# Altium footprint library IPC-7355 QFP_Shrink_Sq_50P_Side_L.PcbLib: 26 footprints (part 1 of 3)
Each footprint in its own frame and in the unit in brackets; x right, y up, seen from the top. Pads: shape width x height; smd on the part's side, far side on the other; paste and mask are expansions set on the pad; w line width, h text height; cw(c..) or ccw(c..) is an arc to the next point about the centre after c.
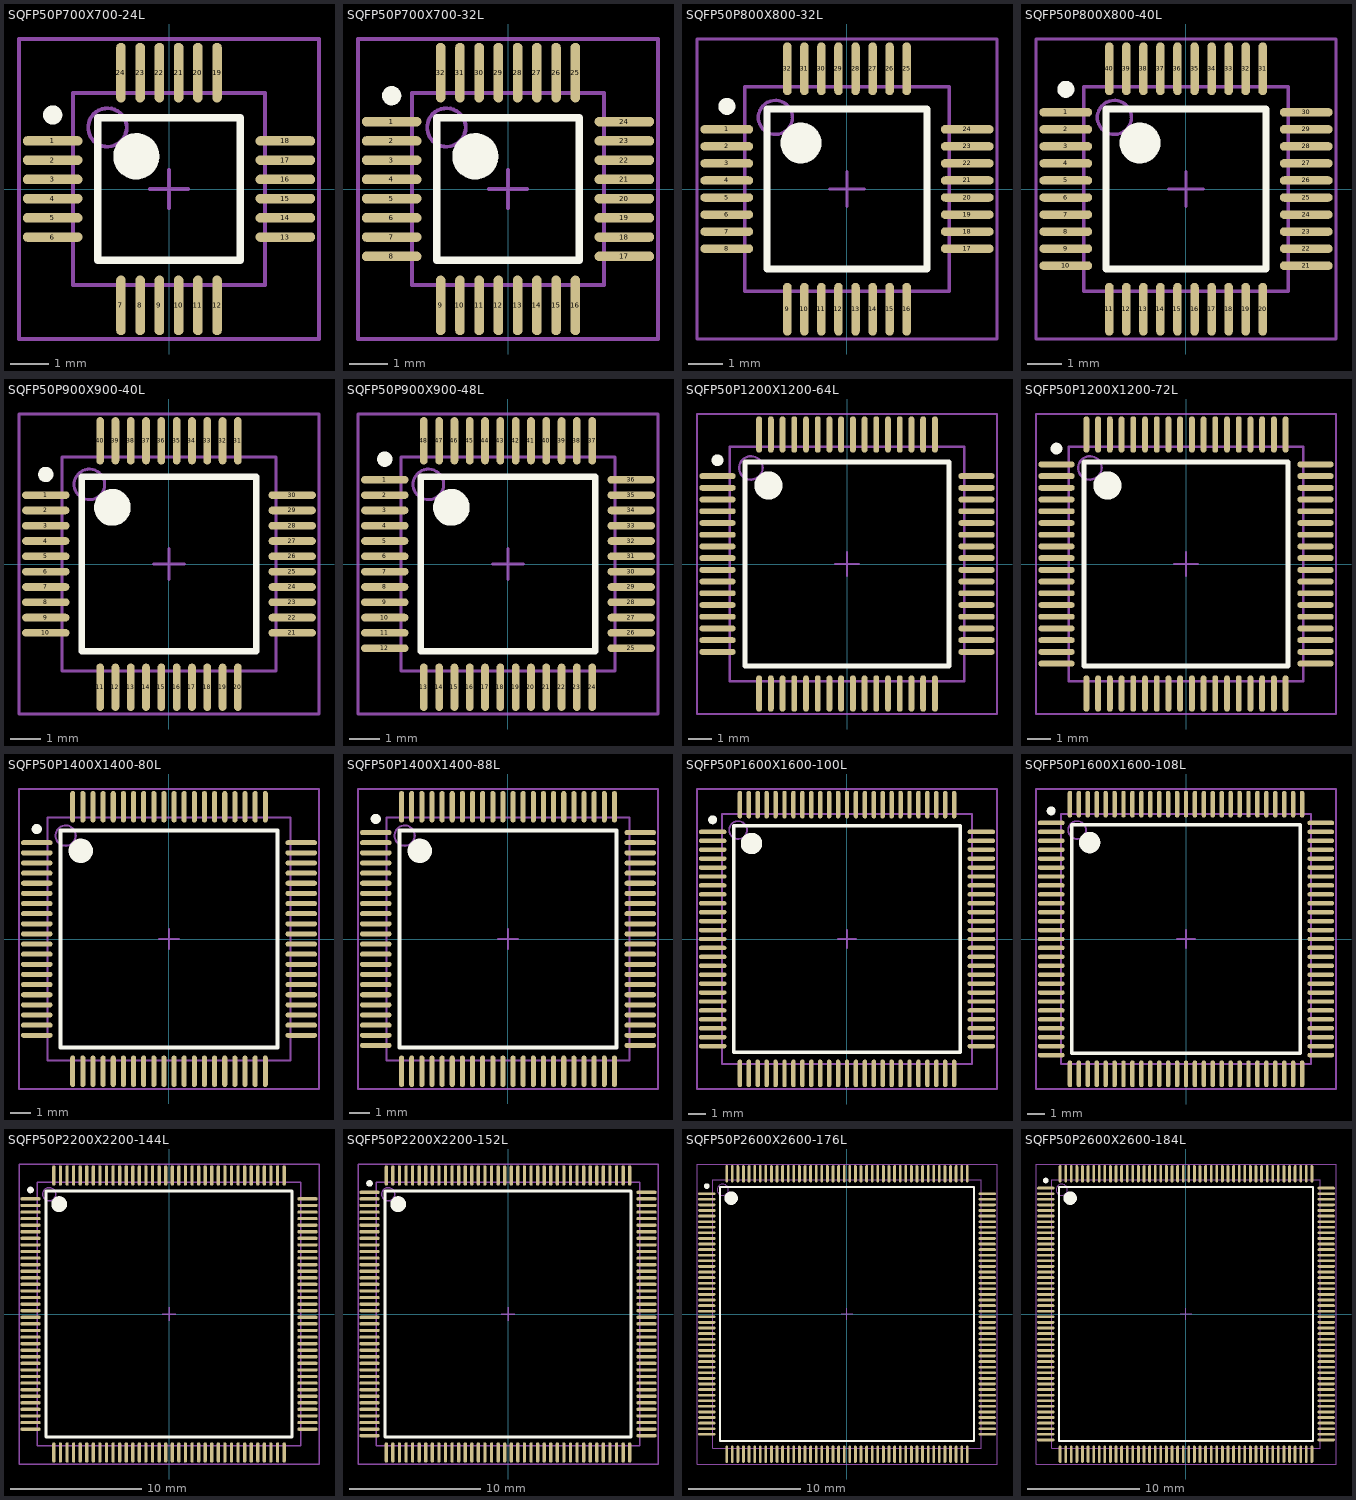
[diagram p0: the footprints below, top view; thin cyan lines are the x and y axes]

## SQFP50P700X700-24L [mm] "Shrink QFP, 24-Leads, Body 5x5mm, Pitch 0.5mm, IPC High Density"
height 1.7
pads (24):
  oval 1.55x0.25 smd: 1(-3.025,1.25) 2(-3.025,0.75) 3(-3.025,0.25) 4(-3.025,-0.25) 5(-3.025,-0.75) 6(-3.025,-1.25) 13(3.025,-1.25) 14(3.025,-0.75) 15(3.025,-0.25) 16(3.025,0.25) 17(3.025,0.75) 18(3.025,1.25)
  oval 0.25x1.55 smd: 7(-1.25,-3.025) 8(-0.75,-3.025) 9(-0.25,-3.025) 10(0.25,-3.025) 11(0.75,-3.025) 12(1.25,-3.025) 19(1.25,3.025) 20(0.75,3.025) 21(0.25,3.025) 22(-0.25,3.025) 23(-0.75,3.025) 24(-1.25,3.025)
Top Overlay:
  circle w0.25: c-3.025,1.925 r0.125
  circle w0.6: c-0.85,0.85 r0.3
  lines w0.2: -1.85,-1.85 -1.85,1.85 1.85,1.85 1.85,-1.85 -1.85,-1.85
Mechanical 13:
  circle w0.1: c-1.6,1.6 r0.5
  lines w0.1: -2.5,-2.5 -2.5,2.5 2.5,2.5 2.5,-2.5 -2.5,-2.5
Mechanical 15:
  lines w0.1: -0.5,0 0.5,0 ; 0,-0.5 0,0.5 ; -3.9,-3.9 -3.9,3.9 3.9,3.9 3.9,-3.9 -3.9,-3.9
3D body: height 1.7, standoff 0, extent -2.5,-2.5 2.5,2.5

## SQFP50P700X700-32L [mm] "Shrink QFP, 32-Leads, Body 5x5mm, Pitch 0.5mm, IPC High Density"
height 1.7
pads (32):
  oval 1.55x0.25 smd: 1(-3.025,1.75) 2(-3.025,1.25) 3(-3.025,0.75) 4(-3.025,0.25) 5(-3.025,-0.25) 6(-3.025,-0.75) 7(-3.025,-1.25) 8(-3.025,-1.75) 17(3.025,-1.75) 18(3.025,-1.25) 19(3.025,-0.75) 20(3.025,-0.25) 21(3.025,0.25) 22(3.025,0.75) 23(3.025,1.25) 24(3.025,1.75)
  oval 0.25x1.55 smd: 9(-1.75,-3.025) 10(-1.25,-3.025) 11(-0.75,-3.025) 12(-0.25,-3.025) 13(0.25,-3.025) 14(0.75,-3.025) 15(1.25,-3.025) 16(1.75,-3.025) 25(1.75,3.025) 26(1.25,3.025) 27(0.75,3.025) 28(0.25,3.025) 29(-0.25,3.025) 30(-0.75,3.025) 31(-1.25,3.025) 32(-1.75,3.025)
Top Overlay:
  circle w0.6: c-0.85,0.85 r0.3
  circle w0.25: c-3.025,2.425 r0.125
  lines w0.2: -1.85,-1.85 1.85,-1.85 1.85,1.85 -1.85,1.85 -1.85,-1.85
Mechanical 13:
  circle w0.1: c-1.6,1.6 r0.5
  lines w0.1: -2.5,-2.5 2.5,-2.5 2.5,2.5 -2.5,2.5 -2.5,-2.5
Mechanical 15:
  lines w0.1: -0.5,0 0.5,0 ; 0,-0.5 0,0.5 ; -3.9,-3.9 3.9,-3.9 3.9,3.9 -3.9,3.9 -3.9,-3.9
3D body: height 1.7, standoff 0, extent -2.5,-2.5 2.5,2.5

## SQFP50P800X800-32L [mm] "Shrink QFP, 32-Leads, Body 6x6mm, Pitch 0.5mm, IPC High Density"
height 1.7
pads (32):
  oval 1.55x0.25 smd: 1(-3.525,1.75) 2(-3.525,1.25) 3(-3.525,0.75) 4(-3.525,0.25) 5(-3.525,-0.25) 6(-3.525,-0.75) 7(-3.525,-1.25) 8(-3.525,-1.75) 17(3.525,-1.75) 18(3.525,-1.25) 19(3.525,-0.75) 20(3.525,-0.25) 21(3.525,0.25) 22(3.525,0.75) 23(3.525,1.25) 24(3.525,1.75)
  oval 0.25x1.55 smd: 9(-1.75,-3.525) 10(-1.25,-3.525) 11(-0.75,-3.525) 12(-0.25,-3.525) 13(0.25,-3.525) 14(0.75,-3.525) 15(1.25,-3.525) 16(1.75,-3.525) 25(1.75,3.525) 26(1.25,3.525) 27(0.75,3.525) 28(0.25,3.525) 29(-0.25,3.525) 30(-0.75,3.525) 31(-1.25,3.525) 32(-1.75,3.525)
Top Overlay:
  circle w0.6: c-1.35,1.35 r0.3
  circle w0.25: c-3.525,2.425 r0.125
  lines w0.2: -2.35,-2.35 2.35,-2.35 2.35,2.35 -2.35,2.35 -2.35,-2.35
Mechanical 13:
  circle w0.1: c-2.1,2.1 r0.5
  lines w0.1: -3,-3 3,-3 3,3 -3,3 -3,-3
Mechanical 15:
  lines w0.1: -0.5,0 0.5,0 ; 0,-0.5 0,0.5 ; -4.4,-4.4 4.4,-4.4 4.4,4.4 -4.4,4.4 -4.4,-4.4
3D body: height 1.7, standoff 0, extent -3,-3 3,3

## SQFP50P800X800-40L [mm] "Shrink QFP, 40-Leads, Body 6x6mm, Pitch 0.5mm, IPC High Density"
height 1.7
pads (40):
  oval 1.55x0.25 smd: 1(-3.525,2.25) 2(-3.525,1.75) 3(-3.525,1.25) 4(-3.525,0.75) 5(-3.525,0.25) 6(-3.525,-0.25) 7(-3.525,-0.75) 8(-3.525,-1.25) 9(-3.525,-1.75) 10(-3.525,-2.25) 21(3.525,-2.25) 22(3.525,-1.75) 23(3.525,-1.25) 24(3.525,-0.75) 25(3.525,-0.25) 26(3.525,0.25) 27(3.525,0.75) 28(3.525,1.25) 29(3.525,1.75) 30(3.525,2.25)
  oval 0.25x1.55 smd: 11(-2.25,-3.525) 12(-1.75,-3.525) 13(-1.25,-3.525) 14(-0.75,-3.525) 15(-0.25,-3.525) 16(0.25,-3.525) 17(0.75,-3.525) 18(1.25,-3.525) 19(1.75,-3.525) 20(2.25,-3.525) 31(2.25,3.525) 32(1.75,3.525) 33(1.25,3.525) 34(0.75,3.525) 35(0.25,3.525) 36(-0.25,3.525) 37(-0.75,3.525) 38(-1.25,3.525) 39(-1.75,3.525) 40(-2.25,3.525)
Top Overlay:
  circle w0.6: c-1.35,1.35 r0.3
  circle w0.25: c-3.525,2.925 r0.125
  lines w0.2: -2.35,-2.35 2.35,-2.35 2.35,2.35 -2.35,2.35 -2.35,-2.35
Mechanical 13:
  circle w0.1: c-2.1,2.1 r0.5
  lines w0.1: -3,-3 3,-3 3,3 -3,3 -3,-3
Mechanical 15:
  lines w0.1: -0.5,0 0.5,0 ; 0,-0.5 0,0.5 ; -4.4,-4.4 4.4,-4.4 4.4,4.4 -4.4,4.4 -4.4,-4.4
3D body: height 1.7, standoff 0, extent -3,-3 3,3

## SQFP50P900X900-40L [mm] "Shrink QFP, 40-Leads, Body 7x7mm, Pitch 0.5mm, IPC High Density"
height 1.7
pads (40):
  oval 1.55x0.25 smd: 1(-4.025,2.25) 2(-4.025,1.75) 3(-4.025,1.25) 4(-4.025,0.75) 5(-4.025,0.25) 6(-4.025,-0.25) 7(-4.025,-0.75) 8(-4.025,-1.25) 9(-4.025,-1.75) 10(-4.025,-2.25) 21(4.025,-2.25) 22(4.025,-1.75) 23(4.025,-1.25) 24(4.025,-0.75) 25(4.025,-0.25) 26(4.025,0.25) 27(4.025,0.75) 28(4.025,1.25) 29(4.025,1.75) 30(4.025,2.25)
  oval 0.25x1.55 smd: 11(-2.25,-4.025) 12(-1.75,-4.025) 13(-1.25,-4.025) 14(-0.75,-4.025) 15(-0.25,-4.025) 16(0.25,-4.025) 17(0.75,-4.025) 18(1.25,-4.025) 19(1.75,-4.025) 20(2.25,-4.025) 31(2.25,4.025) 32(1.75,4.025) 33(1.25,4.025) 34(0.75,4.025) 35(0.25,4.025) 36(-0.25,4.025) 37(-0.75,4.025) 38(-1.25,4.025) 39(-1.75,4.025) 40(-2.25,4.025)
Top Overlay:
  circle w0.6: c-1.85,1.85 r0.3
  circle w0.25: c-4.025,2.925 r0.125
  lines w0.2: -2.85,-2.85 2.85,-2.85 2.85,2.85 -2.85,2.85 -2.85,-2.85
Mechanical 13:
  circle w0.1: c-2.6,2.6 r0.5
  lines w0.1: -3.5,-3.5 3.5,-3.5 3.5,3.5 -3.5,3.5 -3.5,-3.5
Mechanical 15:
  lines w0.1: -0.5,0 0.5,0 ; 0,-0.5 0,0.5 ; -4.9,-4.9 4.9,-4.9 4.9,4.9 -4.9,4.9 -4.9,-4.9
3D body: height 1.7, standoff 0, extent -3.5,-3.5 3.5,3.5

## SQFP50P900X900-48L [mm] "Shrink QFP, 48-Leads, Body 7x7mm, Pitch 0.5mm, IPC High Density"
height 1.7
pads (48):
  oval 1.55x0.25 smd: 1(-4.025,2.75) 2(-4.025,2.25) 3(-4.025,1.75) 4(-4.025,1.25) 5(-4.025,0.75) 6(-4.025,0.25) 7(-4.025,-0.25) 8(-4.025,-0.75) 9(-4.025,-1.25) 10(-4.025,-1.75) 11(-4.025,-2.25) 12(-4.025,-2.75) 25(4.025,-2.75) 26(4.025,-2.25) 27(4.025,-1.75) 28(4.025,-1.25) 29(4.025,-0.75) 30(4.025,-0.25) 31(4.025,0.25) 32(4.025,0.75) 33(4.025,1.25) 34(4.025,1.75) 35(4.025,2.25) 36(4.025,2.75)
  oval 0.25x1.55 smd: 13(-2.75,-4.025) 14(-2.25,-4.025) 15(-1.75,-4.025) 16(-1.25,-4.025) 17(-0.75,-4.025) 18(-0.25,-4.025) 19(0.25,-4.025) 20(0.75,-4.025) 21(1.25,-4.025) 22(1.75,-4.025) 23(2.25,-4.025) 24(2.75,-4.025) 37(2.75,4.025) 38(2.25,4.025) 39(1.75,4.025) 40(1.25,4.025) 41(0.75,4.025) 42(0.25,4.025) 43(-0.25,4.025) 44(-0.75,4.025) 45(-1.25,4.025) 46(-1.75,4.025) 47(-2.25,4.025) 48(-2.75,4.025)
Top Overlay:
  circle w0.6: c-1.85,1.85 r0.3
  circle w0.25: c-4.025,3.425 r0.125
  lines w0.2: -2.85,-2.85 2.85,-2.85 2.85,2.85 -2.85,2.85 -2.85,-2.85
Mechanical 13:
  circle w0.1: c-2.6,2.6 r0.5
  lines w0.1: -3.5,-3.5 3.5,-3.5 3.5,3.5 -3.5,3.5 -3.5,-3.5
Mechanical 15:
  lines w0.1: -0.5,0 0.5,0 ; 0,-0.5 0,0.5 ; -4.9,-4.9 4.9,-4.9 4.9,4.9 -4.9,4.9 -4.9,-4.9
3D body: height 1.7, standoff 0, extent -3.5,-3.5 3.5,3.5

## SQFP50P1200X1200-64L [mm] "Shrink QFP, 64-Leads, Body 10x10mm, Pitch 0.5mm, IPC High Density"
height 2.2
pads (64):
  oval 1.55x0.25 smd: 1(-5.525,3.75) 2(-5.525,3.25) 3(-5.525,2.75) 4(-5.525,2.25) 5(-5.525,1.75) 6(-5.525,1.25) 7(-5.525,0.75) 8(-5.525,0.25) 9(-5.525,-0.25) 10(-5.525,-0.75) 11(-5.525,-1.25) 12(-5.525,-1.75) 13(-5.525,-2.25) 14(-5.525,-2.75) 15(-5.525,-3.25) 16(-5.525,-3.75) 33(5.525,-3.75) 34(5.525,-3.25) 35(5.525,-2.75) 36(5.525,-2.25) 37(5.525,-1.75) 38(5.525,-1.25) 39(5.525,-0.75) 40(5.525,-0.25) 41(5.525,0.25) 42(5.525,0.75) 43(5.525,1.25) 44(5.525,1.75) 45(5.525,2.25) 46(5.525,2.75) 47(5.525,3.25) 48(5.525,3.75)
  oval 0.25x1.55 smd: 17(-3.75,-5.525) 18(-3.25,-5.525) 19(-2.75,-5.525) 20(-2.25,-5.525) 21(-1.75,-5.525) 22(-1.25,-5.525) 23(-0.75,-5.525) 24(-0.25,-5.525) 25(0.25,-5.525) 26(0.75,-5.525) 27(1.25,-5.525) 28(1.75,-5.525) 29(2.25,-5.525) 30(2.75,-5.525) 31(3.25,-5.525) 32(3.75,-5.525) 49(3.75,5.525) 50(3.25,5.525) 51(2.75,5.525) 52(2.25,5.525) 53(1.75,5.525) 54(1.25,5.525) 55(0.75,5.525) 56(0.25,5.525) 57(-0.25,5.525) 58(-0.75,5.525) 59(-1.25,5.525) 60(-1.75,5.525) 61(-2.25,5.525) 62(-2.75,5.525) 63(-3.25,5.525) 64(-3.75,5.525)
Top Overlay:
  circle w0.6: c-3.35,3.35 r0.3
  circle w0.25: c-5.525,4.425 r0.125
  lines w0.2: -4.35,-4.35 4.35,-4.35 4.35,4.35 -4.35,4.35 -4.35,-4.35
Mechanical 13:
  circle w0.1: c-4.1,4.1 r0.5
  lines w0.1: -5,-5 5,-5 5,5 -5,5 -5,-5
Mechanical 15:
  lines w0.1: -0.5,0 0.5,0 ; 0,-0.5 0,0.5 ; -6.4,-6.4 6.4,-6.4 6.4,6.4 -6.4,6.4 -6.4,-6.4
3D body: height 2.2, standoff 0, extent -5,-5 5,5

## SQFP50P1200X1200-72L [mm] "Shrink QFP, 72-Leads, Body 10x10mm, Pitch 0.5mm, IPC High Density"
height 2.2
pads (72):
  oval 1.55x0.25 smd: 1(-5.525,4.25) 2(-5.525,3.75) 3(-5.525,3.25) 4(-5.525,2.75) 5(-5.525,2.25) 6(-5.525,1.75) 7(-5.525,1.25) 8(-5.525,0.75) 9(-5.525,0.25) 10(-5.525,-0.25) 11(-5.525,-0.75) 12(-5.525,-1.25) 13(-5.525,-1.75) 14(-5.525,-2.25) 15(-5.525,-2.75) 16(-5.525,-3.25) 17(-5.525,-3.75) 18(-5.525,-4.25) 37(5.525,-4.25) 38(5.525,-3.75) 39(5.525,-3.25) 40(5.525,-2.75) 41(5.525,-2.25) 42(5.525,-1.75) 43(5.525,-1.25) 44(5.525,-0.75) 45(5.525,-0.25) 46(5.525,0.25) 47(5.525,0.75) 48(5.525,1.25) 49(5.525,1.75) 50(5.525,2.25) 51(5.525,2.75) 52(5.525,3.25) 53(5.525,3.75) 54(5.525,4.25)
  oval 0.25x1.55 smd: 19(-4.25,-5.525) 20(-3.75,-5.525) 21(-3.25,-5.525) 22(-2.75,-5.525) 23(-2.25,-5.525) 24(-1.75,-5.525) 25(-1.25,-5.525) 26(-0.75,-5.525) 27(-0.25,-5.525) 28(0.25,-5.525) 29(0.75,-5.525) 30(1.25,-5.525) 31(1.75,-5.525) 32(2.25,-5.525) 33(2.75,-5.525) 34(3.25,-5.525) 35(3.75,-5.525) 36(4.25,-5.525) 55(4.25,5.525) 56(3.75,5.525) 57(3.25,5.525) 58(2.75,5.525) 59(2.25,5.525) 60(1.75,5.525) 61(1.25,5.525) 62(0.75,5.525) 63(0.25,5.525) 64(-0.25,5.525) 65(-0.75,5.525) 66(-1.25,5.525) 67(-1.75,5.525) 68(-2.25,5.525) 69(-2.75,5.525) 70(-3.25,5.525) 71(-3.75,5.525) 72(-4.25,5.525)
Top Overlay:
  circle w0.6: c-3.35,3.35 r0.3
  circle w0.25: c-5.525,4.925 r0.125
  lines w0.2: -4.35,-4.35 4.35,-4.35 4.35,4.35 -4.35,4.35 -4.35,-4.35
Mechanical 13:
  circle w0.1: c-4.1,4.1 r0.5
  lines w0.1: -5,-5 5,-5 5,5 -5,5 -5,-5
Mechanical 15:
  lines w0.1: -0.5,0 0.5,0 ; 0,-0.5 0,0.5 ; -6.4,-6.4 6.4,-6.4 6.4,6.4 -6.4,6.4 -6.4,-6.4
3D body: height 2.2, standoff 0, extent -5,-5 5,5

## SQFP50P1400X1400-80L [mm] "Shrink QFP, 80-Leads, Body 12x12mm, Pitch 0.5mm, IPC High Density"
height 2.2
pads (80):
  oval 1.55x0.25 smd: 1(-6.525,4.75) 2(-6.525,4.25) 3(-6.525,3.75) 4(-6.525,3.25) 5(-6.525,2.75) 6(-6.525,2.25) 7(-6.525,1.75) 8(-6.525,1.25) 9(-6.525,0.75) 10(-6.525,0.25) 11(-6.525,-0.25) 12(-6.525,-0.75) 13(-6.525,-1.25) 14(-6.525,-1.75) 15(-6.525,-2.25) 16(-6.525,-2.75) 17(-6.525,-3.25) 18(-6.525,-3.75) 19(-6.525,-4.25) 20(-6.525,-4.75) 41(6.525,-4.75) 42(6.525,-4.25) 43(6.525,-3.75) 44(6.525,-3.25) 45(6.525,-2.75) 46(6.525,-2.25) 47(6.525,-1.75) 48(6.525,-1.25) 49(6.525,-0.75) 50(6.525,-0.25) 51(6.525,0.25) 52(6.525,0.75) 53(6.525,1.25) 54(6.525,1.75) 55(6.525,2.25) 56(6.525,2.75) 57(6.525,3.25) 58(6.525,3.75) 59(6.525,4.25) 60(6.525,4.75)
  oval 0.25x1.55 smd: 21(-4.75,-6.525) 22(-4.25,-6.525) 23(-3.75,-6.525) 24(-3.25,-6.525) 25(-2.75,-6.525) 26(-2.25,-6.525) 27(-1.75,-6.525) 28(-1.25,-6.525) 29(-0.75,-6.525) 30(-0.25,-6.525) 31(0.25,-6.525) 32(0.75,-6.525) 33(1.25,-6.525) 34(1.75,-6.525) 35(2.25,-6.525) 36(2.75,-6.525) 37(3.25,-6.525) 38(3.75,-6.525) 39(4.25,-6.525) 40(4.75,-6.525) 61(4.75,6.525) 62(4.25,6.525) 63(3.75,6.525) 64(3.25,6.525) 65(2.75,6.525) 66(2.25,6.525) 67(1.75,6.525) 68(1.25,6.525) 69(0.75,6.525) 70(0.25,6.525) 71(-0.25,6.525) 72(-0.75,6.525) 73(-1.25,6.525) 74(-1.75,6.525) 75(-2.25,6.525) 76(-2.75,6.525) 77(-3.25,6.525) 78(-3.75,6.525) 79(-4.25,6.525) 80(-4.75,6.525)
Top Overlay:
  circle w0.6: c-4.35,4.35 r0.3
  circle w0.25: c-6.525,5.425 r0.125
  lines w0.2: -5.35,-5.35 5.35,-5.35 5.35,5.35 -5.35,5.35 -5.35,-5.35
Mechanical 13:
  circle w0.1: c-5.1,5.1 r0.5
  lines w0.1: -6,-6 6,-6 6,6 -6,6 -6,-6
Mechanical 15:
  lines w0.1: -0.5,0 0.5,0 ; 0,-0.5 0,0.5 ; -7.4,-7.4 7.4,-7.4 7.4,7.4 -7.4,7.4 -7.4,-7.4
3D body: height 2.2, standoff 0, extent -6,-6 6,6

## SQFP50P1400X1400-88L [mm] "Shrink QFP, 88-Leads, Body 12x12mm, Pitch 0.5mm, IPC High Density"
height 2.2
pads (88):
  oval 1.55x0.25 smd: 1(-6.525,5.25) 2(-6.525,4.75) 3(-6.525,4.25) 4(-6.525,3.75) 5(-6.525,3.25) 6(-6.525,2.75) 7(-6.525,2.25) 8(-6.525,1.75) 9(-6.525,1.25) 10(-6.525,0.75) 11(-6.525,0.25) 12(-6.525,-0.25) 13(-6.525,-0.75) 14(-6.525,-1.25) 15(-6.525,-1.75) 16(-6.525,-2.25) 17(-6.525,-2.75) 18(-6.525,-3.25) 19(-6.525,-3.75) 20(-6.525,-4.25) 21(-6.525,-4.75) 22(-6.525,-5.25) 45(6.525,-5.25) 46(6.525,-4.75) 47(6.525,-4.25) 48(6.525,-3.75) 49(6.525,-3.25) 50(6.525,-2.75) 51(6.525,-2.25) 52(6.525,-1.75) 53(6.525,-1.25) 54(6.525,-0.75) 55(6.525,-0.25) 56(6.525,0.25) 57(6.525,0.75) 58(6.525,1.25) 59(6.525,1.75) 60(6.525,2.25) 61(6.525,2.75) 62(6.525,3.25) 63(6.525,3.75) 64(6.525,4.25) 65(6.525,4.75) 66(6.525,5.25)
  oval 0.25x1.55 smd: 23(-5.25,-6.525) 24(-4.75,-6.525) 25(-4.25,-6.525) 26(-3.75,-6.525) 27(-3.25,-6.525) 28(-2.75,-6.525) 29(-2.25,-6.525) 30(-1.75,-6.525) 31(-1.25,-6.525) 32(-0.75,-6.525) 33(-0.25,-6.525) 34(0.25,-6.525) 35(0.75,-6.525) 36(1.25,-6.525) 37(1.75,-6.525) 38(2.25,-6.525) 39(2.75,-6.525) 40(3.25,-6.525) 41(3.75,-6.525) 42(4.25,-6.525) 43(4.75,-6.525) 44(5.25,-6.525) 67(5.25,6.525) 68(4.75,6.525) 69(4.25,6.525) 70(3.75,6.525) 71(3.25,6.525) 72(2.75,6.525) 73(2.25,6.525) 74(1.75,6.525) 75(1.25,6.525) 76(0.75,6.525) 77(0.25,6.525) 78(-0.25,6.525) 79(-0.75,6.525) 80(-1.25,6.525) 81(-1.75,6.525) 82(-2.25,6.525) 83(-2.75,6.525) 84(-3.25,6.525) 85(-3.75,6.525) 86(-4.25,6.525) 87(-4.75,6.525) 88(-5.25,6.525)
Top Overlay:
  circle w0.6: c-4.35,4.35 r0.3
  circle w0.25: c-6.525,5.925 r0.125
  lines w0.2: -5.35,-5.35 5.35,-5.35 5.35,5.35 -5.35,5.35 -5.35,-5.35
Mechanical 13:
  circle w0.1: c-5.1,5.1 r0.5
  lines w0.1: -6,-6 6,-6 6,6 -6,6 -6,-6
Mechanical 15:
  lines w0.1: -0.5,0 0.5,0 ; 0,-0.5 0,0.5 ; -7.4,-7.4 7.4,-7.4 7.4,7.4 -7.4,7.4 -7.4,-7.4
3D body: height 2.2, standoff 0, extent -6,-6 6,6

## SQFP50P1600X1600-100L [mm] "Shrink QFP, 100-Leads, Body 14x14mm, Pitch 0.5mm, IPC High Density"
height 2.2
pads (100):
  oval 1.55x0.25 smd: 1(-7.525,6) 2(-7.525,5.5) 3(-7.525,5) 4(-7.525,4.5) 5(-7.525,4) 6(-7.525,3.5) 7(-7.525,3) 8(-7.525,2.5) 9(-7.525,2) 10(-7.525,1.5) 11(-7.525,1) 12(-7.525,0.5) 13(-7.525,0) 14(-7.525,-0.5) 15(-7.525,-1) 16(-7.525,-1.5) 17(-7.525,-2) 18(-7.525,-2.5) 19(-7.525,-3) 20(-7.525,-3.5) 21(-7.525,-4) 22(-7.525,-4.5) 23(-7.525,-5) 24(-7.525,-5.5) 25(-7.525,-6) 51(7.525,-6) 52(7.525,-5.5) 53(7.525,-5) 54(7.525,-4.5) 55(7.525,-4) 56(7.525,-3.5) 57(7.525,-3) 58(7.525,-2.5) 59(7.525,-2) 60(7.525,-1.5) 61(7.525,-1) 62(7.525,-0.5) 63(7.525,0) 64(7.525,0.5) 65(7.525,1) 66(7.525,1.5) 67(7.525,2) 68(7.525,2.5) 69(7.525,3) 70(7.525,3.5) 71(7.525,4) 72(7.525,4.5) 73(7.525,5) 74(7.525,5.5) 75(7.525,6)
  oval 0.25x1.55 smd: 26(-6,-7.525) 27(-5.5,-7.525) 28(-5,-7.525) 29(-4.5,-7.525) 30(-4,-7.525) 31(-3.5,-7.525) 32(-3,-7.525) 33(-2.5,-7.525) 34(-2,-7.525) 35(-1.5,-7.525) 36(-1,-7.525) 37(-0.5,-7.525) 38(0,-7.525) 39(0.5,-7.525) 40(1,-7.525) 41(1.5,-7.525) 42(2,-7.525) 43(2.5,-7.525) 44(3,-7.525) 45(3.5,-7.525) 46(4,-7.525) 47(4.5,-7.525) 48(5,-7.525) 49(5.5,-7.525) 50(6,-7.525) 76(6,7.525) 77(5.5,7.525) 78(5,7.525) 79(4.5,7.525) 80(4,7.525) 81(3.5,7.525) 82(3,7.525) 83(2.5,7.525) 84(2,7.525) 85(1.5,7.525) 86(1,7.525) 87(0.5,7.525) 88(0,7.525) 89(-0.5,7.525) 90(-1,7.525) 91(-1.5,7.525) 92(-2,7.525) 93(-2.5,7.525) 94(-3,7.525) 95(-3.5,7.525) 96(-4,7.525) 97(-4.5,7.525) 98(-5,7.525) 99(-5.5,7.525) 100(-6,7.525)
Top Overlay:
  circle w0.6: c-5.35,5.35 r0.3
  circle w0.25: c-7.525,6.675 r0.125
  lines w0.2: -6.35,-6.35 6.35,-6.35 6.35,6.35 -6.35,6.35 -6.35,-6.35
Mechanical 13:
  circle w0.1: c-6.1,6.1 r0.5
  lines w0.1: -7,-7 7,-7 7,7 -7,7 -7,-7
Mechanical 15:
  lines w0.1: -0.5,0 0.5,0 ; 0,-0.5 0,0.5 ; -8.4,-8.4 8.4,-8.4 8.4,8.4 -8.4,8.4 -8.4,-8.4
3D body: height 2.2, standoff 0, extent -7,-7 7,7

## SQFP50P1600X1600-108L [mm] "Shrink QFP, 108-Leads, Body 14x14mm, Pitch 0.5mm, IPC High Density"
height 2.2
pads (108):
  oval 1.5x0.25 smd: 1(-7.55,6.5) 2(-7.55,6) 3(-7.55,5.5) 4(-7.55,5) 5(-7.55,4.5) 6(-7.55,4) 7(-7.55,3.5) 8(-7.55,3) 9(-7.55,2.5) 10(-7.55,2) 11(-7.55,1.5) 12(-7.55,1) 13(-7.55,0.5) 14(-7.55,0) 15(-7.55,-0.5) 16(-7.55,-1) 17(-7.55,-1.5) 18(-7.55,-2) 19(-7.55,-2.5) 20(-7.55,-3) 21(-7.55,-3.5) 22(-7.55,-4) 23(-7.55,-4.5) 24(-7.55,-5) 25(-7.55,-5.5) 26(-7.55,-6) 27(-7.55,-6.5) 55(7.55,-6.5) 56(7.55,-6) 57(7.55,-5.5) 58(7.55,-5) 59(7.55,-4.5) 60(7.55,-4) 61(7.55,-3.5) 62(7.55,-3) 63(7.55,-2.5) 64(7.55,-2) 65(7.55,-1.5) 66(7.55,-1) 67(7.55,-0.5) 68(7.55,0) 69(7.55,0.5) 70(7.55,1) 71(7.55,1.5) 72(7.55,2) 73(7.55,2.5) 74(7.55,3) 75(7.55,3.5) 76(7.55,4) 77(7.55,4.5) 78(7.55,5) 79(7.55,5.5) 80(7.55,6) 81(7.55,6.5)
  oval 0.25x1.5 smd: 28(-6.5,-7.55) 29(-6,-7.55) 30(-5.5,-7.55) 31(-5,-7.55) 32(-4.5,-7.55) 33(-4,-7.55) 34(-3.5,-7.55) 35(-3,-7.55) 36(-2.5,-7.55) 37(-2,-7.55) 38(-1.5,-7.55) 39(-1,-7.55) 40(-0.5,-7.55) 41(0,-7.55) 42(0.5,-7.55) 43(1,-7.55) 44(1.5,-7.55) 45(2,-7.55) 46(2.5,-7.55) 47(3,-7.55) 48(3.5,-7.55) 49(4,-7.55) 50(4.5,-7.55) 51(5,-7.55) 52(5.5,-7.55) 53(6,-7.55) 54(6.5,-7.55) 82(6.5,7.55) 83(6,7.55) 84(5.5,7.55) 85(5,7.55) 86(4.5,7.55) 87(4,7.55) 88(3.5,7.55) 89(3,7.55) 90(2.5,7.55) 91(2,7.55) 92(1.5,7.55) 93(1,7.55) 94(0.5,7.55) 95(0,7.55) 96(-0.5,7.55) 97(-1,7.55) 98(-1.5,7.55) 99(-2,7.55) 100(-2.5,7.55) 101(-3,7.55) 102(-3.5,7.55) 103(-4,7.55) 104(-4.5,7.55) 105(-5,7.55) 106(-5.5,7.55) 107(-6,7.55) 108(-6.5,7.55)
Top Overlay:
  circle w0.6: c-5.4,5.4 r0.3
  circle w0.25: c-7.55,7.175 r0.125
  lines w0.2: -6.4,-6.4 6.4,-6.4 6.4,6.4 -6.4,6.4 -6.4,-6.4
Mechanical 13:
  circle w0.1: c-6.1,6.1 r0.5
  lines w0.1: -7,-7 7,-7 7,7 -7,7 -7,-7
Mechanical 15:
  lines w0.1: -0.5,0 0.5,0 ; 0,-0.5 0,0.5 ; -8.4,-8.4 8.4,-8.4 8.4,8.4 -8.4,8.4 -8.4,-8.4
3D body: height 2.2, standoff 0, extent -7,-7 7,7

## SQFP50P2200X2200-144L [mm] "Shrink QFP, 144-Leads, Body 20x20mm, Pitch 0.5mm, IPC High Density"
height 2.7
pads (144):
  oval 1.55x0.25 smd: 1(-10.525,8.75) 2(-10.525,8.25) 3(-10.525,7.75) 4(-10.525,7.25) 5(-10.525,6.75) 6(-10.525,6.25) 7(-10.525,5.75) 8(-10.525,5.25) 9(-10.525,4.75) 10(-10.525,4.25) 11(-10.525,3.75) 12(-10.525,3.25) 13(-10.525,2.75) 14(-10.525,2.25) 15(-10.525,1.75) 16(-10.525,1.25) 17(-10.525,0.75) 18(-10.525,0.25) 19(-10.525,-0.25) 20(-10.525,-0.75) 21(-10.525,-1.25) 22(-10.525,-1.75) 23(-10.525,-2.25) 24(-10.525,-2.75) 25(-10.525,-3.25) 26(-10.525,-3.75) 27(-10.525,-4.25) 28(-10.525,-4.75) 29(-10.525,-5.25) 30(-10.525,-5.75) 31(-10.525,-6.25) 32(-10.525,-6.75) 33(-10.525,-7.25) 34(-10.525,-7.75) 35(-10.525,-8.25) 36(-10.525,-8.75) 73(10.525,-8.75) 74(10.525,-8.25) 75(10.525,-7.75) 76(10.525,-7.25) 77(10.525,-6.75) 78(10.525,-6.25) 79(10.525,-5.75) 80(10.525,-5.25) 81(10.525,-4.75) 82(10.525,-4.25) 83(10.525,-3.75) 84(10.525,-3.25) 85(10.525,-2.75) 86(10.525,-2.25) 87(10.525,-1.75) 88(10.525,-1.25) 89(10.525,-0.75) 90(10.525,-0.25) 91(10.525,0.25) 92(10.525,0.75) 93(10.525,1.25) 94(10.525,1.75) 95(10.525,2.25) 96(10.525,2.75) 97(10.525,3.25) 98(10.525,3.75) 99(10.525,4.25) 100(10.525,4.75) 101(10.525,5.25) 102(10.525,5.75) 103(10.525,6.25) 104(10.525,6.75) 105(10.525,7.25) 106(10.525,7.75) 107(10.525,8.25) 108(10.525,8.75)
  oval 0.25x1.55 smd: 37(-8.75,-10.525) 38(-8.25,-10.525) 39(-7.75,-10.525) 40(-7.25,-10.525) 41(-6.75,-10.525) 42(-6.25,-10.525) 43(-5.75,-10.525) 44(-5.25,-10.525) 45(-4.75,-10.525) 46(-4.25,-10.525) 47(-3.75,-10.525) 48(-3.25,-10.525) 49(-2.75,-10.525) 50(-2.25,-10.525) 51(-1.75,-10.525) 52(-1.25,-10.525) 53(-0.75,-10.525) 54(-0.25,-10.525) 55(0.25,-10.525) 56(0.75,-10.525) 57(1.25,-10.525) 58(1.75,-10.525) 59(2.25,-10.525) 60(2.75,-10.525) 61(3.25,-10.525) 62(3.75,-10.525) 63(4.25,-10.525) 64(4.75,-10.525) 65(5.25,-10.525) 66(5.75,-10.525) 67(6.25,-10.525) 68(6.75,-10.525) 69(7.25,-10.525) 70(7.75,-10.525) 71(8.25,-10.525) 72(8.75,-10.525) 109(8.75,10.525) 110(8.25,10.525) 111(7.75,10.525) 112(7.25,10.525) 113(6.75,10.525) 114(6.25,10.525) 115(5.75,10.525) 116(5.25,10.525) 117(4.75,10.525) 118(4.25,10.525) 119(3.75,10.525) 120(3.25,10.525) 121(2.75,10.525) 122(2.25,10.525) 123(1.75,10.525) 124(1.25,10.525) 125(0.75,10.525) 126(0.25,10.525) 127(-0.25,10.525) 128(-0.75,10.525) 129(-1.25,10.525) 130(-1.75,10.525) 131(-2.25,10.525) 132(-2.75,10.525) 133(-3.25,10.525) 134(-3.75,10.525) 135(-4.25,10.525) 136(-4.75,10.525) 137(-5.25,10.525) 138(-5.75,10.525) 139(-6.25,10.525) 140(-6.75,10.525) 141(-7.25,10.525) 142(-7.75,10.525) 143(-8.25,10.525) 144(-8.75,10.525)
Top Overlay:
  circle w0.6: c-8.35,8.35 r0.3
  circle w0.25: c-10.525,9.425 r0.125
  lines w0.2: -9.35,-9.35 9.35,-9.35 9.35,9.35 -9.35,9.35 -9.35,-9.35
Mechanical 13:
  circle w0.1: c-9.1,9.1 r0.5
  lines w0.1: -10,-10 10,-10 10,10 -10,10 -10,-10
Mechanical 15:
  lines w0.1: -0.5,0 0.5,0 ; 0,-0.5 0,0.5 ; -11.4,-11.4 11.4,-11.4 11.4,11.4 -11.4,11.4 -11.4,-11.4
3D body: height 2.7, standoff 0, extent -10,-10 10,10

## SQFP50P2200X2200-152L [mm] "Shrink QFP, 152-Leads, Body 20x20mm, Pitch 0.5mm, IPC High Density"
height 2.7
pads (152):
  oval 1.55x0.25 smd: 1(-10.525,9.25) 2(-10.525,8.75) 3(-10.525,8.25) 4(-10.525,7.75) 5(-10.525,7.25) 6(-10.525,6.75) 7(-10.525,6.25) 8(-10.525,5.75) 9(-10.525,5.25) 10(-10.525,4.75) 11(-10.525,4.25) 12(-10.525,3.75) 13(-10.525,3.25) 14(-10.525,2.75) 15(-10.525,2.25) 16(-10.525,1.75) 17(-10.525,1.25) 18(-10.525,0.75) 19(-10.525,0.25) 20(-10.525,-0.25) 21(-10.525,-0.75) 22(-10.525,-1.25) 23(-10.525,-1.75) 24(-10.525,-2.25) 25(-10.525,-2.75) 26(-10.525,-3.25) 27(-10.525,-3.75) 28(-10.525,-4.25) 29(-10.525,-4.75) 30(-10.525,-5.25) 31(-10.525,-5.75) 32(-10.525,-6.25) 33(-10.525,-6.75) 34(-10.525,-7.25) 35(-10.525,-7.75) 36(-10.525,-8.25) 37(-10.525,-8.75) 38(-10.525,-9.25) 77(10.525,-9.25) 78(10.525,-8.75) 79(10.525,-8.25) 80(10.525,-7.75) 81(10.525,-7.25) 82(10.525,-6.75) 83(10.525,-6.25) 84(10.525,-5.75) 85(10.525,-5.25) 86(10.525,-4.75) 87(10.525,-4.25) 88(10.525,-3.75) 89(10.525,-3.25) 90(10.525,-2.75) 91(10.525,-2.25) 92(10.525,-1.75) 93(10.525,-1.25) 94(10.525,-0.75) 95(10.525,-0.25) 96(10.525,0.25) 97(10.525,0.75) 98(10.525,1.25) 99(10.525,1.75) 100(10.525,2.25) 101(10.525,2.75) 102(10.525,3.25) 103(10.525,3.75) 104(10.525,4.25) 105(10.525,4.75) 106(10.525,5.25) 107(10.525,5.75) 108(10.525,6.25) 109(10.525,6.75) 110(10.525,7.25) 111(10.525,7.75) 112(10.525,8.25) 113(10.525,8.75) 114(10.525,9.25)
  oval 0.25x1.55 smd: 39(-9.25,-10.525) 40(-8.75,-10.525) 41(-8.25,-10.525) 42(-7.75,-10.525) 43(-7.25,-10.525) 44(-6.75,-10.525) 45(-6.25,-10.525) 46(-5.75,-10.525) 47(-5.25,-10.525) 48(-4.75,-10.525) 49(-4.25,-10.525) 50(-3.75,-10.525) 51(-3.25,-10.525) 52(-2.75,-10.525) 53(-2.25,-10.525) 54(-1.75,-10.525) 55(-1.25,-10.525) 56(-0.75,-10.525) 57(-0.25,-10.525) 58(0.25,-10.525) 59(0.75,-10.525) 60(1.25,-10.525) 61(1.75,-10.525) 62(2.25,-10.525) 63(2.75,-10.525) 64(3.25,-10.525) 65(3.75,-10.525) 66(4.25,-10.525) 67(4.75,-10.525) 68(5.25,-10.525) 69(5.75,-10.525) 70(6.25,-10.525) 71(6.75,-10.525) 72(7.25,-10.525) 73(7.75,-10.525) 74(8.25,-10.525) 75(8.75,-10.525) 76(9.25,-10.525) 115(9.25,10.525) 116(8.75,10.525) 117(8.25,10.525) 118(7.75,10.525) 119(7.25,10.525) 120(6.75,10.525) 121(6.25,10.525) 122(5.75,10.525) 123(5.25,10.525) 124(4.75,10.525) 125(4.25,10.525) 126(3.75,10.525) 127(3.25,10.525) 128(2.75,10.525) 129(2.25,10.525) 130(1.75,10.525) 131(1.25,10.525) 132(0.75,10.525) 133(0.25,10.525) 134(-0.25,10.525) 135(-0.75,10.525) 136(-1.25,10.525) 137(-1.75,10.525) 138(-2.25,10.525) 139(-2.75,10.525) 140(-3.25,10.525) 141(-3.75,10.525) 142(-4.25,10.525) 143(-4.75,10.525) 144(-5.25,10.525) 145(-5.75,10.525) 146(-6.25,10.525) 147(-6.75,10.525) 148(-7.25,10.525) 149(-7.75,10.525) 150(-8.25,10.525) 151(-8.75,10.525) 152(-9.25,10.525)
Top Overlay:
  circle w0.25: c-10.525,9.925 r0.125
  circle w0.6: c-8.35,8.35 r0.3
  lines w0.2: -9.35,-9.35 -9.35,9.35 9.35,9.35 9.35,-9.35 -9.35,-9.35
Mechanical 13:
  circle w0.1: c-9.1,9.1 r0.5
  lines w0.1: -10,-10 -10,10 10,10 10,-10 -10,-10
Mechanical 15:
  lines w0.1: -0.5,0 0.5,0 ; 0,-0.5 0,0.5 ; -11.4,-11.4 -11.4,11.4 11.4,11.4 11.4,-11.4 -11.4,-11.4
3D body: height 2.7, standoff 0, extent -10,-10 10,10

## SQFP50P2600X2600-176L [mm] "Shrink QFP, 176-Leads, Body 24x24mm, Pitch 0.5mm, IPC High Density"
height 3.2
pads (176):
  oval 1.55x0.25 smd: 1(-12.525,10.75) 2(-12.525,10.25) 3(-12.525,9.75) 4(-12.525,9.25) 5(-12.525,8.75) 6(-12.525,8.25) 7(-12.525,7.75) 8(-12.525,7.25) 9(-12.525,6.75) 10(-12.525,6.25) 11(-12.525,5.75) 12(-12.525,5.25) 13(-12.525,4.75) 14(-12.525,4.25) 15(-12.525,3.75) 16(-12.525,3.25) 17(-12.525,2.75) 18(-12.525,2.25) 19(-12.525,1.75) 20(-12.525,1.25) 21(-12.525,0.75) 22(-12.525,0.25) 23(-12.525,-0.25) 24(-12.525,-0.75) 25(-12.525,-1.25) 26(-12.525,-1.75) 27(-12.525,-2.25) 28(-12.525,-2.75) 29(-12.525,-3.25) 30(-12.525,-3.75) 31(-12.525,-4.25) 32(-12.525,-4.75) 33(-12.525,-5.25) 34(-12.525,-5.75) 35(-12.525,-6.25) 36(-12.525,-6.75) 37(-12.525,-7.25) 38(-12.525,-7.75) 39(-12.525,-8.25) 40(-12.525,-8.75) 41(-12.525,-9.25) 42(-12.525,-9.75) 43(-12.525,-10.25) 44(-12.525,-10.75) 89(12.525,-10.75) 90(12.525,-10.25) 91(12.525,-9.75) 92(12.525,-9.25) 93(12.525,-8.75) 94(12.525,-8.25) 95(12.525,-7.75) 96(12.525,-7.25) 97(12.525,-6.75) 98(12.525,-6.25) 99(12.525,-5.75) 100(12.525,-5.25) 101(12.525,-4.75) 102(12.525,-4.25) 103(12.525,-3.75) 104(12.525,-3.25) 105(12.525,-2.75) 106(12.525,-2.25) 107(12.525,-1.75) 108(12.525,-1.25) 109(12.525,-0.75) 110(12.525,-0.25) 111(12.525,0.25) 112(12.525,0.75) 113(12.525,1.25) 114(12.525,1.75) 115(12.525,2.25) 116(12.525,2.75) 117(12.525,3.25) 118(12.525,3.75) 119(12.525,4.25) 120(12.525,4.75) 121(12.525,5.25) 122(12.525,5.75) 123(12.525,6.25) 124(12.525,6.75) 125(12.525,7.25) 126(12.525,7.75) 127(12.525,8.25) 128(12.525,8.75) 129(12.525,9.25) 130(12.525,9.75) 131(12.525,10.25) 132(12.525,10.75)
  oval 0.25x1.55 smd: 45(-10.75,-12.525) 46(-10.25,-12.525) 47(-9.75,-12.525) 48(-9.25,-12.525) 49(-8.75,-12.525) 50(-8.25,-12.525) 51(-7.75,-12.525) 52(-7.25,-12.525) 53(-6.75,-12.525) 54(-6.25,-12.525) 55(-5.75,-12.525) 56(-5.25,-12.525) 57(-4.75,-12.525) 58(-4.25,-12.525) 59(-3.75,-12.525) 60(-3.25,-12.525) 61(-2.75,-12.525) 62(-2.25,-12.525) 63(-1.75,-12.525) 64(-1.25,-12.525) 65(-0.75,-12.525) 66(-0.25,-12.525) 67(0.25,-12.525) 68(0.75,-12.525) 69(1.25,-12.525) 70(1.75,-12.525) 71(2.25,-12.525) 72(2.75,-12.525) 73(3.25,-12.525) 74(3.75,-12.525) 75(4.25,-12.525) 76(4.75,-12.525) 77(5.25,-12.525) 78(5.75,-12.525) 79(6.25,-12.525) 80(6.75,-12.525) 81(7.25,-12.525) 82(7.75,-12.525) 83(8.25,-12.525) 84(8.75,-12.525) 85(9.25,-12.525) 86(9.75,-12.525) 87(10.25,-12.525) 88(10.75,-12.525) 133(10.75,12.525) 134(10.25,12.525) 135(9.75,12.525) 136(9.25,12.525) 137(8.75,12.525) 138(8.25,12.525) 139(7.75,12.525) 140(7.25,12.525) 141(6.75,12.525) 142(6.25,12.525) 143(5.75,12.525) 144(5.25,12.525) 145(4.75,12.525) 146(4.25,12.525) 147(3.75,12.525) 148(3.25,12.525) 149(2.75,12.525) 150(2.25,12.525) 151(1.75,12.525) 152(1.25,12.525) 153(0.75,12.525) 154(0.25,12.525) 155(-0.25,12.525) 156(-0.75,12.525) 157(-1.25,12.525) 158(-1.75,12.525) 159(-2.25,12.525) 160(-2.75,12.525) 161(-3.25,12.525) 162(-3.75,12.525) 163(-4.25,12.525) 164(-4.75,12.525) 165(-5.25,12.525) 166(-5.75,12.525) 167(-6.25,12.525) 168(-6.75,12.525) 169(-7.25,12.525) 170(-7.75,12.525) 171(-8.25,12.525) 172(-8.75,12.525) 173(-9.25,12.525) 174(-9.75,12.525) 175(-10.25,12.525) 176(-10.75,12.525)
Top Overlay:
  circle w0.6: c-10.35,10.35 r0.3
  circle w0.25: c-12.525,11.425 r0.125
  lines w0.2: -11.35,-11.35 11.35,-11.35 11.35,11.35 -11.35,11.35 -11.35,-11.35
Mechanical 13:
  circle w0.1: c-11.1,11.1 r0.5
  lines w0.1: -12,-12 12,-12 12,12 -12,12 -12,-12
Mechanical 15:
  lines w0.1: -0.5,0 0.5,0 ; 0,-0.5 0,0.5 ; -13.4,-13.4 13.4,-13.4 13.4,13.4 -13.4,13.4 -13.4,-13.4
3D body: height 3.2, standoff 0, extent -12,-12 12,12

## SQFP50P2600X2600-184L [mm] "Shrink QFP, 184-Leads, Body 24x24mm, Pitch 0.5mm, IPC High Density"
height 3.2
pads (184):
  oval 1.55x0.25 smd: 1(-12.525,11.25) 2(-12.525,10.75) 3(-12.525,10.25) 4(-12.525,9.75) 5(-12.525,9.25) 6(-12.525,8.75) 7(-12.525,8.25) 8(-12.525,7.75) 9(-12.525,7.25) 10(-12.525,6.75) 11(-12.525,6.25) 12(-12.525,5.75) 13(-12.525,5.25) 14(-12.525,4.75) 15(-12.525,4.25) 16(-12.525,3.75) 17(-12.525,3.25) 18(-12.525,2.75) 19(-12.525,2.25) 20(-12.525,1.75) 21(-12.525,1.25) 22(-12.525,0.75) 23(-12.525,0.25) 24(-12.525,-0.25) 25(-12.525,-0.75) 26(-12.525,-1.25) 27(-12.525,-1.75) 28(-12.525,-2.25) 29(-12.525,-2.75) 30(-12.525,-3.25) 31(-12.525,-3.75) 32(-12.525,-4.25) 33(-12.525,-4.75) 34(-12.525,-5.25) 35(-12.525,-5.75) 36(-12.525,-6.25) 37(-12.525,-6.75) 38(-12.525,-7.25) 39(-12.525,-7.75) 40(-12.525,-8.25) 41(-12.525,-8.75) 42(-12.525,-9.25) 43(-12.525,-9.75) 44(-12.525,-10.25) 45(-12.525,-10.75) 46(-12.525,-11.25) 93(12.525,-11.25) 94(12.525,-10.75) 95(12.525,-10.25) 96(12.525,-9.75) 97(12.525,-9.25) 98(12.525,-8.75) 99(12.525,-8.25) 100(12.525,-7.75) 101(12.525,-7.25) 102(12.525,-6.75) 103(12.525,-6.25) 104(12.525,-5.75) 105(12.525,-5.25) 106(12.525,-4.75) 107(12.525,-4.25) 108(12.525,-3.75) 109(12.525,-3.25) 110(12.525,-2.75) 111(12.525,-2.25) 112(12.525,-1.75) 113(12.525,-1.25) 114(12.525,-0.75) 115(12.525,-0.25) 116(12.525,0.25) 117(12.525,0.75) 118(12.525,1.25) 119(12.525,1.75) 120(12.525,2.25) 121(12.525,2.75) 122(12.525,3.25) 123(12.525,3.75) 124(12.525,4.25) 125(12.525,4.75) 126(12.525,5.25) 127(12.525,5.75) 128(12.525,6.25) 129(12.525,6.75) 130(12.525,7.25) 131(12.525,7.75) 132(12.525,8.25) 133(12.525,8.75) 134(12.525,9.25) 135(12.525,9.75) 136(12.525,10.25) 137(12.525,10.75) 138(12.525,11.25)
  oval 0.25x1.55 smd: 47(-11.25,-12.525) 48(-10.75,-12.525) 49(-10.25,-12.525) 50(-9.75,-12.525) 51(-9.25,-12.525) 52(-8.75,-12.525) 53(-8.25,-12.525) 54(-7.75,-12.525) 55(-7.25,-12.525) 56(-6.75,-12.525) 57(-6.25,-12.525) 58(-5.75,-12.525) 59(-5.25,-12.525) 60(-4.75,-12.525) 61(-4.25,-12.525) 62(-3.75,-12.525) 63(-3.25,-12.525) 64(-2.75,-12.525) 65(-2.25,-12.525) 66(-1.75,-12.525) 67(-1.25,-12.525) 68(-0.75,-12.525) 69(-0.25,-12.525) 70(0.25,-12.525) 71(0.75,-12.525) 72(1.25,-12.525) 73(1.75,-12.525) 74(2.25,-12.525) 75(2.75,-12.525) 76(3.25,-12.525) 77(3.75,-12.525) 78(4.25,-12.525) 79(4.75,-12.525) 80(5.25,-12.525) 81(5.75,-12.525) 82(6.25,-12.525) 83(6.75,-12.525) 84(7.25,-12.525) 85(7.75,-12.525) 86(8.25,-12.525) 87(8.75,-12.525) 88(9.25,-12.525) 89(9.75,-12.525) 90(10.25,-12.525) 91(10.75,-12.525) 92(11.25,-12.525) 139(11.25,12.525) 140(10.75,12.525) 141(10.25,12.525) 142(9.75,12.525) 143(9.25,12.525) 144(8.75,12.525) 145(8.25,12.525) 146(7.75,12.525) 147(7.25,12.525) 148(6.75,12.525) 149(6.25,12.525) 150(5.75,12.525) 151(5.25,12.525) 152(4.75,12.525) 153(4.25,12.525) 154(3.75,12.525) 155(3.25,12.525) 156(2.75,12.525) 157(2.25,12.525) 158(1.75,12.525) 159(1.25,12.525) 160(0.75,12.525) 161(0.25,12.525) 162(-0.25,12.525) 163(-0.75,12.525) 164(-1.25,12.525) 165(-1.75,12.525) 166(-2.25,12.525) 167(-2.75,12.525) 168(-3.25,12.525) 169(-3.75,12.525) 170(-4.25,12.525) 171(-4.75,12.525) 172(-5.25,12.525) 173(-5.75,12.525) 174(-6.25,12.525) 175(-6.75,12.525) 176(-7.25,12.525) 177(-7.75,12.525) 178(-8.25,12.525) 179(-8.75,12.525) 180(-9.25,12.525) 181(-9.75,12.525) 182(-10.25,12.525) 183(-10.75,12.525) 184(-11.25,12.525)
Top Overlay:
  circle w0.6: c-10.35,10.35 r0.3
  circle w0.25: c-12.525,11.925 r0.125
  lines w0.2: -11.35,-11.35 11.35,-11.35 11.35,11.35 -11.35,11.35 -11.35,-11.35
Mechanical 13:
  circle w0.1: c-11.1,11.1 r0.5
  lines w0.1: -12,-12 12,-12 12,12 -12,12 -12,-12
Mechanical 15:
  lines w0.1: -0.5,0 0.5,0 ; 0,-0.5 0,0.5 ; -13.4,-13.4 13.4,-13.4 13.4,13.4 -13.4,13.4 -13.4,-13.4
3D body: height 3.2, standoff 0, extent -12,-12 12,12